# Altium footprint library RES500.PcbLib: 1 footprints
Each footprint in its own frame and in the unit in brackets; x right, y up, seen from the top. Pads: shape width x height; smd on the part's side, far side on the other; paste and mask are expansions set on the pad; w line width, h text height; cw(c..) or ccw(c..) is an arc to the next point about the centre after c.
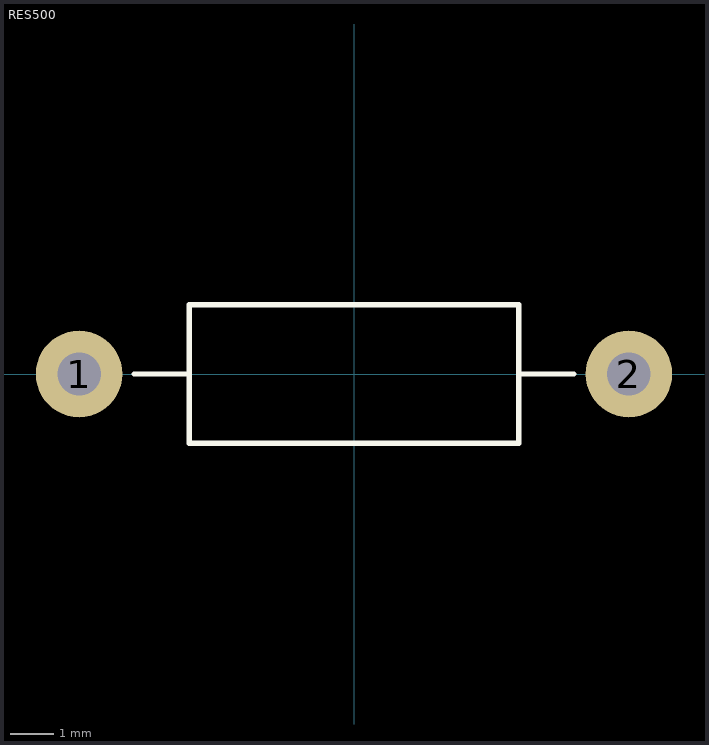
[diagram p0: the footprint, top view; thin cyan lines are the x and y axes]

## RES500 [mm]
pads (2):
  round 2 hole 1: 1(-6.35,0) 2(6.35,0)
Top Overlay:
  lines w0.127: -5.08,0 -3.81,0 ; 3.81,0 5.08,0 ; -3.81,-1.6 -3.81,1.6 3.81,1.6 3.81,-1.6 -3.81,-1.6
3D body: height 3.6, standoff -1.8, extent -6.553,-1.632 6.547,1.568